# Altium schematic symbol library Schlib1.SchLib: 1 symbol
Pins are listed as number, name and electrical type; pins without a type are passive.

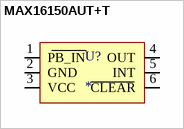
[diagram p0: symbol MAX16150AUT+T]

## MAX16150AUT+T
designator U?
pins: 1 PB_IN, 2 GND (power), 3 VCC (power), 4 OUT, 5 INT, 6 CLEAR